# Altium footprint library GRM033R61E103KA12D.PcbLib: 2 footprints
Each footprint in its own frame and in the unit in brackets; x right, y up, seen from the top. Pads: shape width x height; smd on the part's side, far side on the other; paste and mask are expansions set on the pad; w line width, h text height; cw(c..) or ccw(c..) is an arc to the next point about the centre after c.
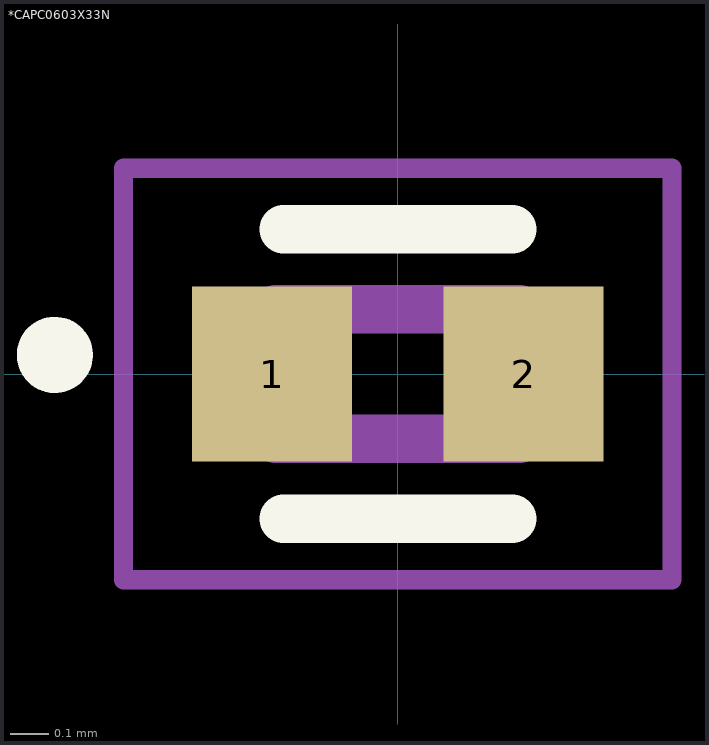
[diagram p0: the footprints below, top view; thin cyan lines are the x and y axes]

## *CAPC0603X33N [mm]
pads (2):
  rect 0.42x0.46 smd: 1(-0.33,0) 2(0.33,0)
Top Overlay:
  circle w0.1: c-0.9,0.05 r0.05
  lines w0.127: -0.3,-0.38 0.3,-0.38 ; -0.3,0.38 0.3,0.38
Mechanical 4:
  lines w0.127: -0.32,-0.17 -0.32,0.17 ; -0.32,-0.17 0.32,-0.17 ; -0.32,-0.17 -0.32,0.17 ; -0.32,-0.17 0.32,-0.17 ; -0.32,0.17 0.32,0.17 ; -0.32,0.17 0.32,0.17 ; 0.32,-0.17 0.32,0.17 ; 0.32,-0.17 0.32,0.17
Mechanical 16:
  lines w0.05: -0.72,-0.54 0.72,-0.54 0.72,0.54 -0.72,0.54 -0.72,-0.54

## PCBComponent_1 [mm]